# EAGLE library part MCP6564 (library op-amp)
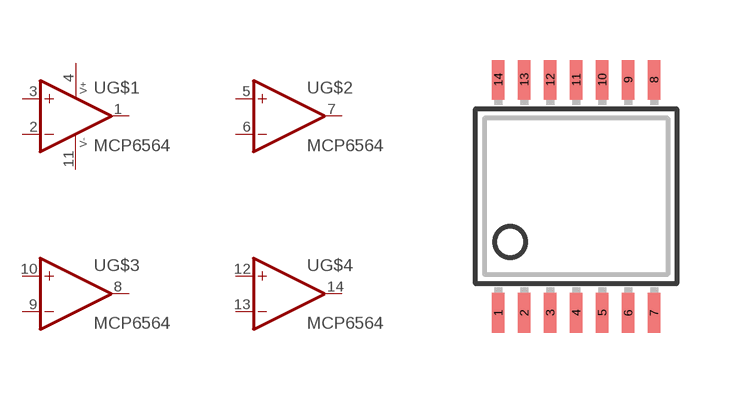
[diagram p66: symbol with the pads of TSSOP14; footprint TSSOP14]

Designator prefix U; gates G$1=COMPARATOR-OC G$2=COMPARATOR-OC G$3=COMPARATOR-OC G$4=COMPARATOR-OC G$5=PWR+-

## MCP6564 (DIGIKEY: MCP6564-E/ST-ND; P1I: o)  [TSSOP14]
1  G$1:OUT  oc
2  G$1:-IN  in
3  G$1:+IN  in
4  G$5:V+  pwr
5  G$2:+IN  in
6  G$2:-IN  in
7  G$2:OUT  oc
8  G$3:OUT  oc
9  G$3:-IN  in
10  G$3:+IN  in
11  G$5:V-  pwr
12  G$4:+IN  in
13  G$4:-IN  in
14  G$4:OUT  oc

## Footprint TSSOP14 (pad centres in mm)
Thin Shrink Small Outline Plastic 14
smd 0.305 x 0.991: 1 -1.95,-2.918; 2 -1.3,-2.918; 3 -0.65,-2.918; 4 0,-2.918; 5 0.65,-2.918; 6 1.3,-2.918; 7 1.95,-2.918; 8 1.95,2.918; 9 1.3,2.918; 10 0.65,2.918; 11 0,2.918; 12 -0.65,2.918; 13 -1.3,2.918; 14 -1.95,2.918